# Altium schematic symbol library ERJ-2GE0R00X.Schlib: 1 symbol
Pins are listed as number, name and electrical type; pins without a type are passive.

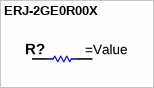
[diagram p0: symbol ERJ-2GE0R00X]

## ERJ-2GE0R00X
designator R?
RES 0.0 OHM 1/10W JUMP 0402 SMD
pins: 1, 2